# Altium footprint library PcbLib1.PcbLib: 6 footprints
Each footprint in its own frame and in the unit in brackets; x right, y up, seen from the top. Pads: shape width x height; smd on the part's side, far side on the other; paste and mask are expansions set on the pad; w line width, h text height; cw(c..) or ccw(c..) is an arc to the next point about the centre after c.
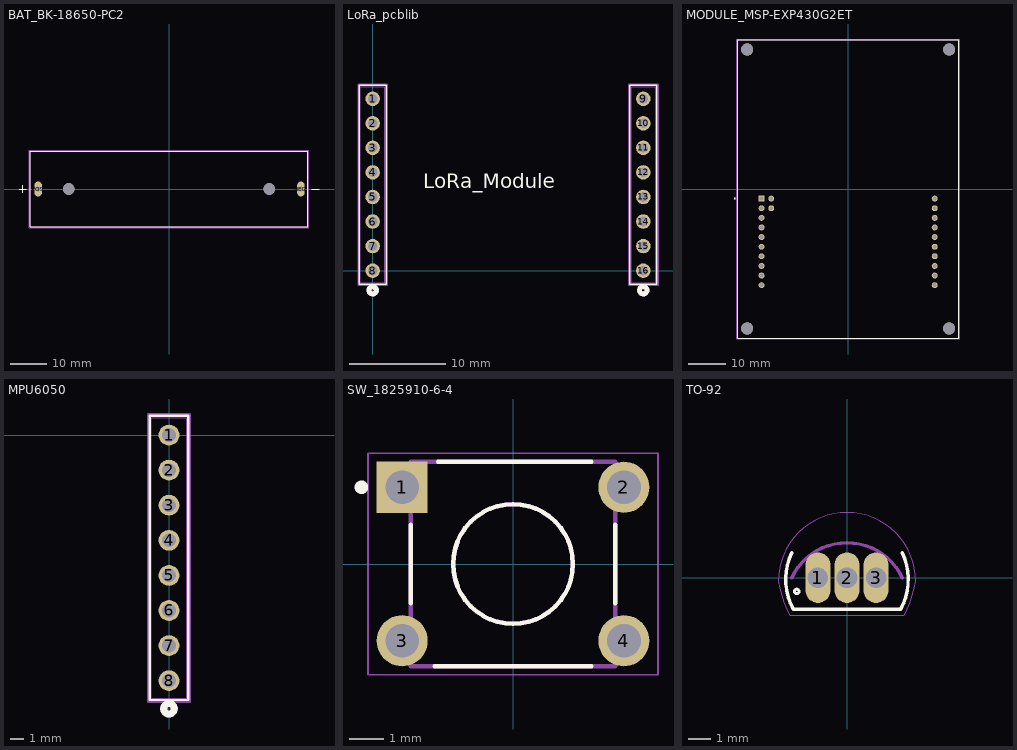
[diagram p0: the footprints below, top view; thin cyan lines are the x and y axes]

## BAT_BK-18650-PC2 [mm]
pads (4):
  oval 2.07x4.14 hole 1.38 square: NEG(36.6,0) POS(-36.3,0)
  round 3.2 hole 3.2 unplated: ""(-27.805,0) ""(27.81,0)
Top Overlay:
  lines w0.127: -41.63,0 -39.63,0 ; -40.63,-1 -40.63,1 ; 39.63,0 41.63,0 ; -38.48,-10.49 38.48,-10.49 38.48,10.49 -38.48,10.49 -38.48,-10.49
Mechanical 13:
  lines w0.127: -41.63,0 -39.63,0 ; -40.63,-1 -40.63,1 ; 39.63,0 41.63,0 ; -38.48,-10.49 38.48,-10.49 38.48,10.49 -38.48,10.49 -38.48,-10.49
Mechanical 15:
  lines w0.05: -38.73,-10.74 38.73,-10.74 38.73,10.74 -38.73,10.74 -38.73,-10.74
3D body "BK-18650-PC2--3DModel-STEP-56544.STEP": height 21.42, standoff -3.29, extent -38.48,-10.49 38.48,10.49

## LoRa_pcblib [mil]
pads (16):
  round 59 / inner round 60 / far side round 59 hole 39 paste-29.5 mask+0: 1(0,700) 2(0,600) 3(0,500) 4(0,400) 5(0,300) 6(0,200) 7(0,100) 8(0,0) 9(1102.36,700) 10(1102.36,600) 11(1102.36,500) 12(1102.36,400) 13(1102.36,300) 14(1102.36,200) 15(1102.36,100) 16(1102.36,0)
Top Overlay:
  circle w20: c1102.36,-80 r15
  circle w20: c0,-80 r15
  lines w6: -55,-55 55,-55 55,755 -55,755 -55,-55 ; 1047.36,-55 1157.36,-55 1157.36,755 1047.36,755 1047.36,-55
  text "LoRa_Module" at 206.85,334.96 h60
Bottom Overlay:
  circle w20: c1102.36,-80 r15
  circle w20: c0,-80 r15
Mechanical 13:
  circle w20: c1102.36,-80 r15
  circle w20: c0,-80 r15
  lines w1: -50,-50 50,-50 50,750 -50,750 -50,-50 ; 1052.36,-50 1152.36,-50 1152.36,750 1052.36,750 1052.36,-50
Mechanical 15:
  lines w6: -60,-60 -60,760 60,760 60,-60 -60,-60 ; 1042.36,-60 1042.36,760 1162.36,760 1162.36,-60 1042.36,-60

## MODULE_MSP-EXP430G2ET [mm]
pads (26):
  rect 1.55x1.55 hole 1.02: 1(-22.86,-2.54)
  round 1.55 hole 1.02: 2(-22.86,-5.08) 3(-22.86,-7.62) 4(-22.86,-10.16) 5(-22.86,-12.7) 6(-22.86,-15.24) 7(-22.86,-17.78) 8(-22.86,-20.32) 9(-22.86,-22.86) 10(-22.86,-25.4) 11(22.86,-25.4) 12(22.86,-22.86) 13(22.86,-20.32) 14(22.86,-17.78) 15(22.86,-15.24) 16(22.86,-12.7) 17(22.86,-10.16) 18(22.86,-7.62) 19(22.86,-5.08) 20(22.86,-2.54) 21(-20.32,-2.54) 22(-20.32,-5.08)
  round 3.175 hole 3.175 unplated: ""(-26.67,-36.83) ""(-26.67,36.83) ""(26.67,-36.83) ""(26.67,36.83)
Top Overlay:
  circle w0.2: c-29.96,-2.54 r0.1
  lines w0.127: -29.21,-39.37 29.21,-39.37 29.21,39.37 -29.21,39.37 -29.21,-39.37
Mechanical 13:
  circle w0.2: c-29.96,-2.54 r0.1
  lines w0.127: -29.21,-39.37 29.21,-39.37 29.21,39.37 -29.21,39.37 -29.21,-39.37
Mechanical 15:
  lines w0.05: -29.46,-39.62 29.46,-39.62 29.46,39.62 -29.46,39.62 -29.46,-39.62
3D body "MCU021_V1.0_PCB.step": height 18.82, standoff -1.48, extent -30.114,-39.775 29.6,39.175

## MPU6050 [mil]
pads (8):
  round 59 / inner round 60 / far side round 59 hole 39 paste-29.5 mask+0: 1(0,0) 2(0,-100) 3(0,-200) 4(0,-300) 5(0,-400) 6(0,-500) 7(0,-600) 8(0,-700)
Top Overlay:
  circle w20: c0,-780 r15
  lines w6: -55,-755 -55,55 55,55 55,-755 -55,-755
Bottom Overlay:
  circle w20: c0,-780 r15
Mechanical 13:
  circle w20: c0,-780 r15
  lines w1: -50,-750 -50,50 50,50 50,-750 -50,-750
Mechanical 15:
  lines w6: -60,-760 60,-760 60,60 -60,60 -60,-760
3D body "MPU6050 Module.step": height 228.85, standoff -222.33, extent -51.18,-751.56 549.21,50.77

## SW_1825910-6-4 [mm]
pads (4):
  rect 1.498x1.498 / inner round 1.498 / far side rect 1.498x1.498 hole 0.99: 1(-3.25,2.25)
  round 1.498 hole 0.99: 2(3.25,2.25) 3(-3.25,-2.25) 4(3.25,-2.25)
Top Overlay:
  circle w0.127: c0,0 r1.755
  circle w0.2: c-4.445,2.25 r0.1
  lines w0.127: -2.995,-1.15 -2.995,1.15 ; -2.3,-2.995 2.3,-2.995 ; -2.2,2.995 2.3,2.995 ; 3,-1.15 3,1.15
Mechanical 13:
  circle w0.127: c0,0 r1.755
  lines w0.127: -2.995,-2.995 -2.995,2.995 2.995,2.995 2.995,-2.995 -2.995,-2.995
Mechanical 15:
  lines w0.05: -4.25,-3.25 -4.25,3.25 4.25,3.25 4.25,-3.25 -4.25,-3.25
3D body "step_temp.STEP": height 5.01, standoff -3.51, extent -2.995,-3.9 2.995,3.898

## TO-92 [mm]
pads (3):
  oval 1.1x2.2 hole 0.9: 1(-1.27,0) 2(0,0) 3(1.27,0)
Top Overlay:
  circle w0.127: c-2.2,-0.6 r0.1
  lines w0.152: -2.417,1.091 ccw(c0.085,-0.076) -2.353,-1.372 ; -2.35,-1.38 2.35,-1.38 ; 2.353,-1.369 ccw(c-0.082,-0.074) 2.417,1.091
Mechanical 13:
  lines w0.152: -2.417,-0.009 cw(c0,-1.136) 2.417,-0.009
Mechanical 15:
  lines w0.05: -3,-0.152 ccw(c1.75,0.6) -2.496,-1.658 ; -3,-0.15 cw(c0,-0.15) 3,-0.15 ; -2.5,-1.65 2.5,-1.65 ; 2.496,-1.658 ccw(c-1.75,0.6) 3,-0.152
3D body "DS18B20--3DModel-STEP-56544.STEP": height 4.97, standoff -15.48, extent -2.277,-1.143 2.277,2.476